# EAGLE library part DISP_OLED_UG-2832HSWEG02 (library microbuilder)
128x32 I2C 0.91" Monochrome OLED Display
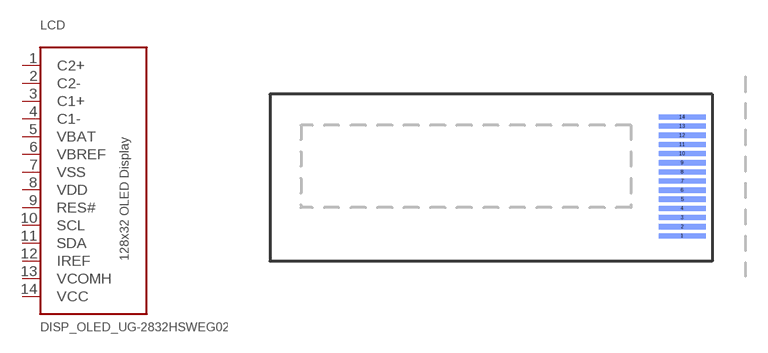
[diagram p162: symbol with the pads of UG-2832HSWEG02_WRAPUNDER; footprint UG-2832HSWEG02_WRAPUNDER]

Designator prefix LCD

## DISP_OLED_UG-2832HSWEG02  [UG-2832HSWEG02_WRAPUNDER]
1  C2+
2  C2-
3  C1+
4  C1-
5  VBAT  pwr
6  VBREF  pwr
7  VSS  pwr
8  VDD  pwr
9  RES#
10  SCL
11  SDA
12  IREF
13  VCOMH  pwr
14  VCC  pwr

## Footprint UG-2832HSWEG02_WRAPUNDER (pad centres in mm)
smd 3.2 x 0.35 bottom: 1 -2.03,-4.03; 2 -2.03,-3.41; 3 -2.03,-2.79; 4 -2.03,-2.17; 5 -2.03,-1.55; 6 -2.03,-0.93; 7 -2.03,-0.31; 8 -2.03,0.31; 9 -2.03,0.93; 10 -2.03,1.55; 11 -2.03,2.17; 12 -2.03,2.79; 13 -2.03,3.41; 14 -2.03,4.03